# Altium schematic symbol library MOSFETS Drivers 05_10_18.SchLib: 1 symbol
Pins are listed as number, name and electrical type; pins without a type are passive.

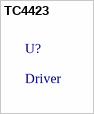
[diagram p0: symbol TC4423]

## TC4423
designator U?, comment Driver
Mos Driver